# Altium footprint library ComponentLibrary.PcbLib: 153 footprints (part 9 of 10)
Each footprint in its own frame and in the unit in brackets; x right, y up, seen from the top. Pads: shape width x height; smd on the part's side, far side on the other; paste and mask are expansions set on the pad; w line width, h text height; cw(c..) or ccw(c..) is an arc to the next point about the centre after c.
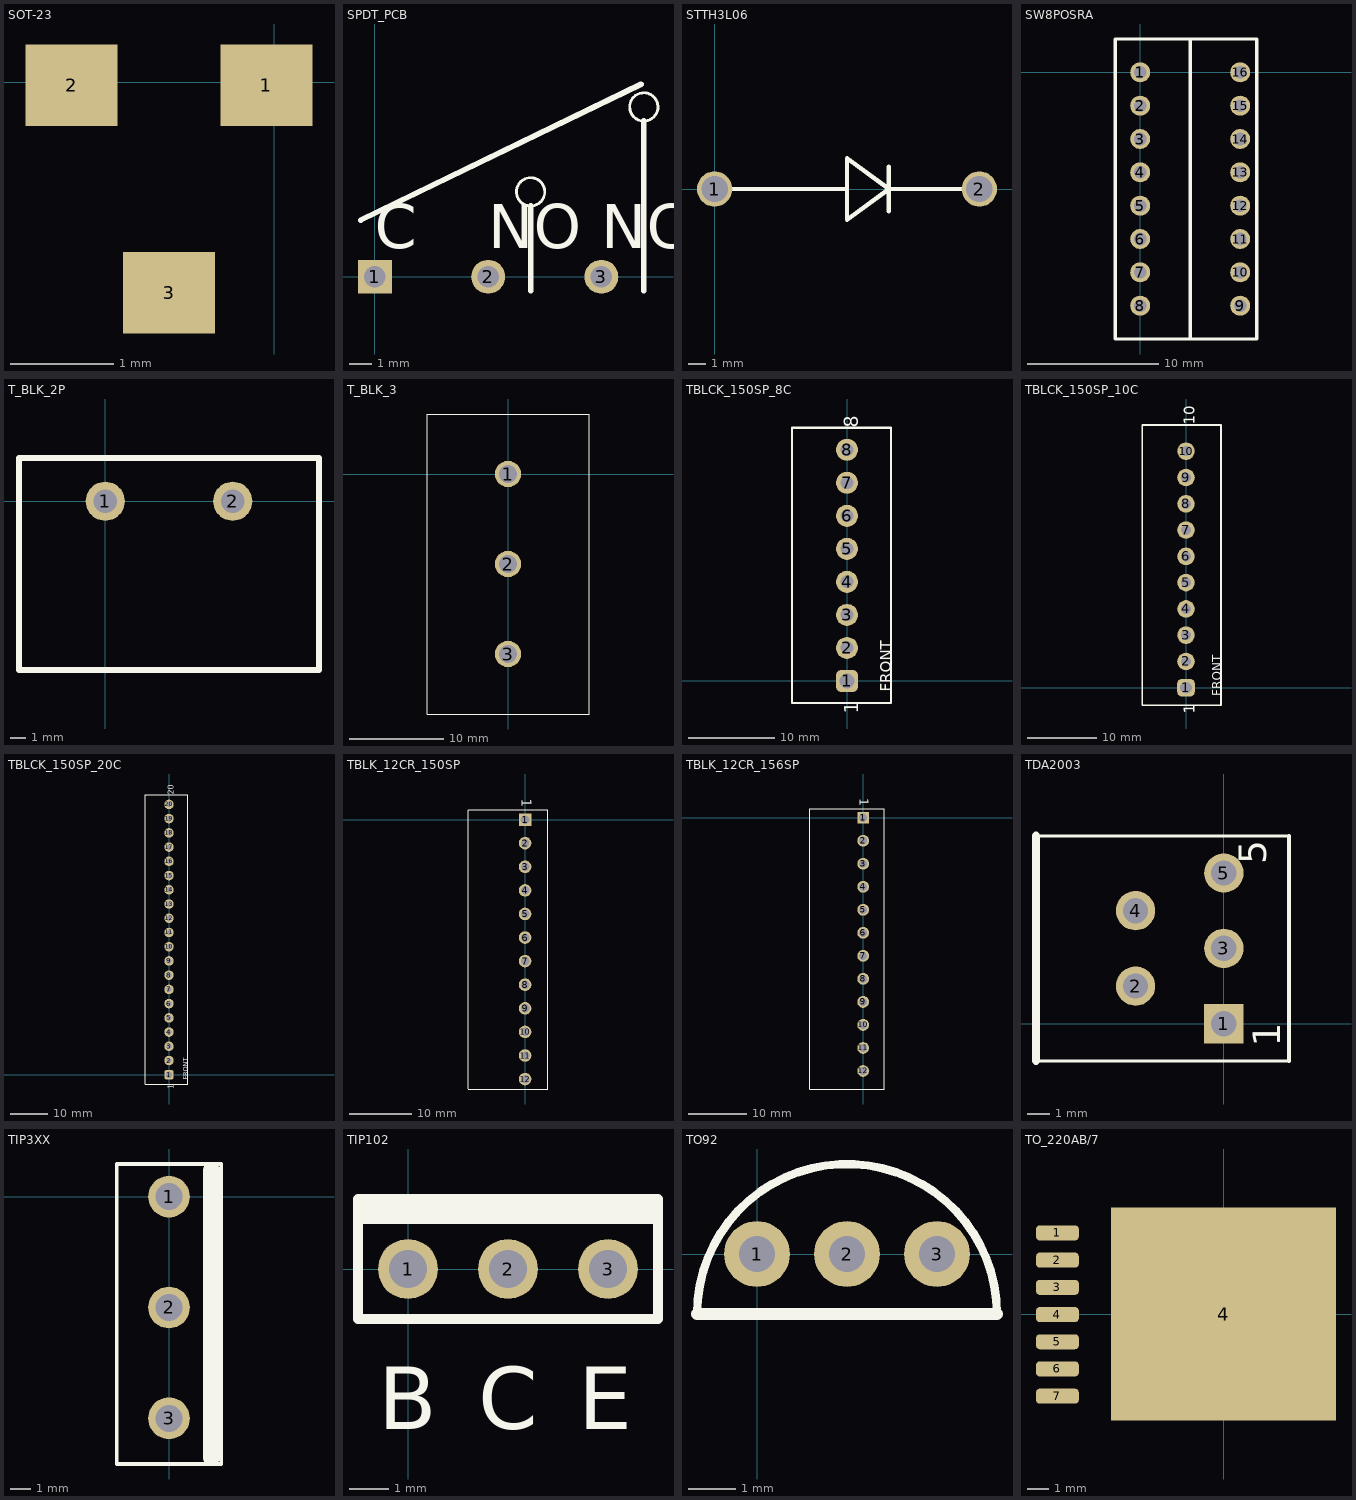
[diagram p8: the footprints below, top view; thin cyan lines are the x and y axes]

## SOT-23 [mil]
pads (3):
  rect 35x31 smd: 1(-3,-1) 2(-77,-1) 3(-40,-80)

## SPDT_PCB [mil]
pads (3):
  rect 60x60 hole 38: 1(0,0)
  round 60 hole 38: 2(200,0) 3(400,0)
Top Overlay:
  lines w5: 250,150 ccw(c275,150) 275,175 ; 275,125 cw(c275,150) 300,150 ; 450,300 ccw(c475,300) 475,325 ; 475,275 cw(c475,300) 500,300
  lines w10: -25,100 470,340 ; 275,-25 275,125 ; 475,-25 475,275
  text "C" at 0,50 h78.12
  text "NC" at 400,50 h78.12
  text "NO" at 200,50 h78.12

## STTH3L06 [mil]
pads (2):
  round 80 hole 60: 1(0,0) 2(600,0)
Top Overlay:
  lines w10: 40,0 300,0 ; 395,-50 395,50 ; 565,0 395,0 ; 395,0 300,70 300,-70 395,0

## SW8POSRA [mil]
pads (16):
  round 60 hole 38: 1(0,0) 2(0,-100) 3(0,-200) 4(0,-300) 5(0,-400) 6(0,-500) 7(0,-600) 8(0,-700) 9(300,-700) 10(300,-600) 11(300,-500) 12(300,-400) 13(300,-300) 14(300,-200) 15(300,-100) 16(300,0)
Top Overlay:
  lines w10: 150,-800 -75,-800 -75,100 150,100 ; 150,-800 150,100 ; 150,-800 350,-800 350,100 150,100

## T_BLK_2P [mil]
height 530
pads (2):
  round 100 hole 60: 1(0,0) 2(325,0)
Top Overlay:
  lines w15: -220,-430 -220,110 545,110 545,-430 -150,-430 -220,-430

## T_BLK_3 [mil]
pads (3):
  round 110 hole 73: 1(0,0) 2(0,-375) 3(0,-750)
Top Overlay:
  lines w5: -337.5,-1000 -337.5,250 337.5,250 337.5,-1000 -337.5,-1000
  text ".375_space" at 275,-300 h30

## TBLCK_150SP_8C [mil]
pads (8):
  rrect50% 100x100 hole 67: 1(0,0)
  round 100 hole 57: 2(0,150) 3(0,300) 4(0,450) 5(0,600) 6(0,750) 7(0,900) 8(0,1050)
Top Overlay:
  lines w10: -250,-100 -250,1150 200,1150 200,-100 -250,-100
  text "1" at 50,-150 h62.5
  text "8" at 50,1150 h62.5
  text "FRONT" at 200,-50 h50

## TBLCK_150SP_10C [mil]
pads (10):
  rrect50% 100x100 hole 67: 1(0,0)
  round 100 hole 57: 2(0,150) 3(0,300) 4(0,450) 5(0,600) 6(0,750) 7(0,900) 8(0,1050) 9(0,1200) 10(0,1350)
Top Overlay:
  lines w10: -250,-100 200,-100 200,1500 -250,1500 -250,-100
  text "FRONT" at 200,-50 h50
  text "10" at 50,1500 h62.5
  text "1" at 50,-150 h62.5

## TBLCK_150SP_20C [mil]
pads (20):
  rrect50% 100x100 hole 67: 1(0,0)
  round 100 hole 57: 2(0,150) 3(0,300) 4(0,450) 5(0,600) 6(0,750) 7(0,900) 8(0,1050) 9(0,1200) 10(0,1350) 11(0,1500) 12(0,1650) 13(0,1800) 14(0,1950) 15(0,2100) 16(0,2250) 17(0,2400) 18(0,2550) 19(0,2700) 20(0,2850)
Top Overlay:
  lines w10: -250,-100 200,-100 200,2950 -250,2950 -250,-100
  text "FRONT" at 200,-50 h50
  text "20" at 50,2950 h62.5
  text "1" at 50,-150 h62.5

## TBLK_12CR_150SP [mil]
pads (12):
  rect 80x80 hole 55: 1(0,0)
  round 80 hole 54: 2(0,-150) 3(0,-300) 4(0,-450) 5(0,-600) 6(0,-750) 7(0,-900) 8(0,-1050) 9(0,-1200) 10(0,-1350) 11(0,-1500) 12(0,-1650)
Top Overlay:
  lines w5: -362,-1713 143,-1713 ; -362,62 143,62 ; -360,-1710 -360,60 ; 145,-1710 145,60
  text "1" at -22,132 h62.5

## TBLK_12CR_156SP [mil]
pads (12):
  rect 80x80 hole 55: 1(0,0)
  round 80 hole 54: 2(0,-156) 3(0,-312) 4(0,-468) 5(0,-624) 6(0,-780) 7(0,-936) 8(0,-1092) 9(0,-1248) 10(0,-1404) 11(0,-1560) 12(0,-1716)
Top Overlay:
  lines w5: -362,-1838 143,-1838 143,62 -362,62 -362,-1838
  text "1" at -22,132 h62.5

## TDA2003 [mil]
pads (5):
  rect 70x70 hole 45: 1(0,0)
  round 70 hole 45: 2(-157,67) 3(0,134) 4(-157,201) 5(0,268)
Top Overlay:
  lines w5: -334,-66 116,-66 ; -334,334 116,334
  lines w7: 116,-66 116,334
  lines w15: -334,-66 -334,334
  text "5" at 91,284 h83.33
  text "1" at 116,-41 h83.33

## TIP3XX [mil]
pads (3):
  round 80 hole 52: 1(0,0) 2(0,-212.5) 3(0,-425)
Top Overlay:
  lines w7: -100,-512.5 -100,62.5 100,62.5 100,-512.5 -100,-512.5
  lines w20: 90,-500 90,50
  lines w30: 80,-500 80,50

## TIP102 [mil]
pads (3):
  round 60 hole 38: 1(0,0) 2(100,0) 3(200,0)
Top Overlay:
  lines w10: -50,50 250,50 ; -50,60 250,60 ; -50,-50 -50,70 250,70 250,-50 -50,-50
  text "B" at -30,-160 h62.5
  text "E" at 170,-160 h62.5
  text "C" at 70,-160 h62.5

## TO92 [mil]
pads (3):
  round 55 hole 30: 1(0,0) 2(75,0) 3(150,0)
Top Overlay:
  lines w7: -50,-50 cw(c75,-50) 200,-50
  lines w10: -50,-50 200,-50

## TO_220AB/7 [mm] "SMD"
pads (8):
  rrect50% 2x0.7 smd: 1(-7.75,3.785) 2(-7.75,2.515) 3(-7.75,1.245) 4(-7.75,-0.025) 5(-7.75,-1.295) 6(-7.75,-2.565) 7(-7.75,-3.835)
  rect 10.5x9.95 smd: 4(0,0)